# Altium footprint library Connector_Samtec_HLE_SMD.PcbLib: 290 footprints (part 5 of 24)
Each footprint in its own frame and in the unit in brackets; x right, y up, seen from the top. Pads: shape width x height; smd on the part's side, far side on the other; paste and mask are expansions set on the pad; w line width, h text height; cw(c..) or ccw(c..) is an arc to the next point about the centre after c.
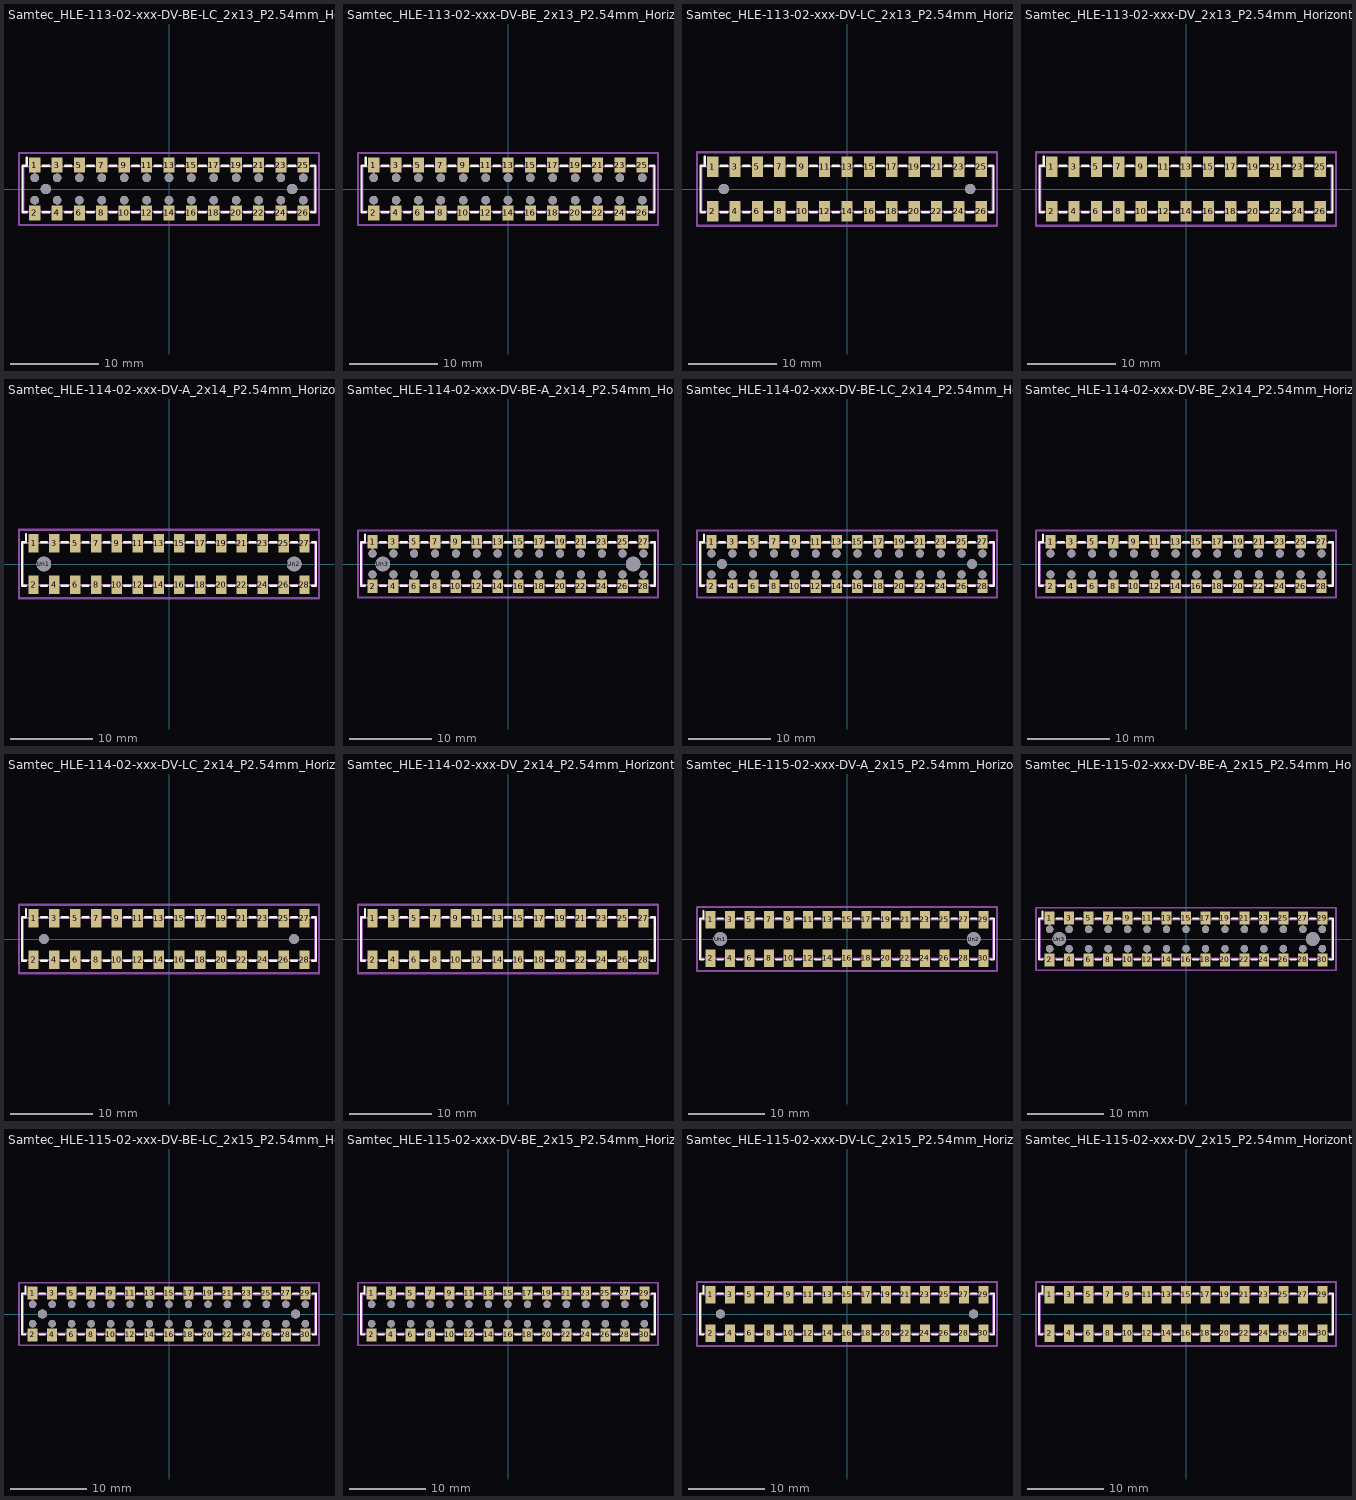
[diagram p4: the footprints below, top view; thin cyan lines are the x and y axes]

## Samtec_HLE-113-02-xxx-DV-BE-LC_2x13_P2.54mm_Horizontal [mm]
pads (54):
  rect 1.27x1.68 smd: 1(-15.24,2.72) 2(-15.24,-2.72) 3(-12.7,2.72) 4(-12.7,-2.72) 5(-10.16,2.72) 6(-10.16,-2.72) 7(-7.62,2.72) 8(-7.62,-2.72) 9(-5.08,2.72) 10(-5.08,-2.72) 11(-2.54,2.72) 12(-2.54,-2.72) 13(0,2.72) 14(0,-2.72) 15(2.54,2.72) 16(2.54,-2.72) 17(5.08,2.72) 18(5.08,-2.72) 19(7.62,2.72) 20(7.62,-2.72) 21(10.16,2.72) 22(10.16,-2.72) 23(12.7,2.72) 24(12.7,-2.72) 25(15.24,2.72) 26(15.24,-2.72)
  round 0.97 hole 0.97: Un1(-15.24,1.27) Un2(-15.24,-1.27) Un4(-12.7,1.27) Un5(-12.7,-1.27) Un6(-10.16,1.27) Un7(-10.16,-1.27) Un8(-7.62,1.27) Un9(-7.62,-1.27) Un10(-5.08,1.27) Un11(-5.08,-1.27) Un12(-2.54,1.27) Un13(-2.54,-1.27) Un14(0,1.27) Un15(0,-1.27) Un16(2.54,1.27) Un17(2.54,-1.27) Un18(5.08,1.27) Un19(5.08,-1.27) Un20(7.62,1.27) Un21(7.62,-1.27) Un22(10.16,1.27) Un23(10.16,-1.27) Un24(12.7,1.27) Un25(12.7,-1.27) Un27(15.24,1.27) Un28(15.24,-1.27)
  round 1.19 hole 1.19: Un3(-13.97,0) Un26(13.97,0)
F.SilkS:
  lines w0.254: -16.135,-2.65 -16.62,-2.65 -16.62,2.65 -16.135,2.65 -16.135,3.56 ; -14.345,-2.65 -13.595,-2.65 ; -14.345,2.65 -13.595,2.65 ; -11.805,-2.65 -11.055,-2.65 ; -11.805,2.65 -11.055,2.65 ; -9.265,-2.65 -8.515,-2.65 ; -9.265,2.65 -8.515,2.65 ; -6.725,-2.65 -5.975,-2.65 ; -6.725,2.65 -5.975,2.65 ; -4.185,-2.65 -3.435,-2.65 ; -4.185,2.65 -3.435,2.65 ; -1.645,-2.65 -0.895,-2.65 ; -1.645,2.65 -0.895,2.65 ; 0.895,-2.65 1.645,-2.65 ; 0.895,2.65 1.645,2.65 ; 3.435,-2.65 4.185,-2.65 ; 3.435,2.65 4.185,2.65 ; 5.975,-2.65 6.725,-2.65 ; 5.975,2.65 6.725,2.65 ; 8.515,-2.65 9.265,-2.65 ; 8.515,2.65 9.265,2.65 ; 11.055,-2.65 11.805,-2.65 ; 11.055,2.65 11.805,2.65 ; 13.595,-2.65 14.345,-2.65 ; 13.595,2.65 14.345,2.65 ; 16.135,-2.65 16.62,-2.65 16.62,2.65 16.135,2.65
Top Assembly:
  lines w0.254: -15.74,2.54 -15.24,1.833 -14.74,2.54 ; -16.51,-2.54 16.51,-2.54 16.51,2.54 -16.51,2.54 -16.51,-2.54
  text "'.Designator'" at -4.047,-2.68 h1
Top Courtyard:
  lines w0.254: -17.02,-4.07 17.02,-4.07 17.02,4.07 -17.02,4.07 -17.02,-4.07
Top Designator:
  text ".Designator" at -7.618,-0.508 h1.52

## Samtec_HLE-113-02-xxx-DV-BE_2x13_P2.54mm_Horizontal [mm]
pads (52):
  rect 1.27x1.68 smd: 1(-15.24,2.72) 2(-15.24,-2.72) 3(-12.7,2.72) 4(-12.7,-2.72) 5(-10.16,2.72) 6(-10.16,-2.72) 7(-7.62,2.72) 8(-7.62,-2.72) 9(-5.08,2.72) 10(-5.08,-2.72) 11(-2.54,2.72) 12(-2.54,-2.72) 13(0,2.72) 14(0,-2.72) 15(2.54,2.72) 16(2.54,-2.72) 17(5.08,2.72) 18(5.08,-2.72) 19(7.62,2.72) 20(7.62,-2.72) 21(10.16,2.72) 22(10.16,-2.72) 23(12.7,2.72) 24(12.7,-2.72) 25(15.24,2.72) 26(15.24,-2.72)
  round 0.97 hole 0.97: Un1(-15.24,1.27) Un2(-15.24,-1.27) Un3(-12.7,1.27) Un4(-12.7,-1.27) Un5(-10.16,1.27) Un6(-10.16,-1.27) Un7(-7.62,1.27) Un8(-7.62,-1.27) Un9(-5.08,1.27) Un10(-5.08,-1.27) Un11(-2.54,1.27) Un12(-2.54,-1.27) Un13(0,1.27) Un14(0,-1.27) Un15(2.54,1.27) Un16(2.54,-1.27) Un17(5.08,1.27) Un18(5.08,-1.27) Un19(7.62,1.27) Un20(7.62,-1.27) Un21(10.16,1.27) Un22(10.16,-1.27) Un23(12.7,1.27) Un24(12.7,-1.27) Un25(15.24,1.27) Un26(15.24,-1.27)
F.SilkS:
  lines w0.254: -16.135,-2.65 -16.62,-2.65 -16.62,2.65 -16.135,2.65 -16.135,3.56 ; -14.345,-2.65 -13.595,-2.65 ; -14.345,2.65 -13.595,2.65 ; -11.805,-2.65 -11.055,-2.65 ; -11.805,2.65 -11.055,2.65 ; -9.265,-2.65 -8.515,-2.65 ; -9.265,2.65 -8.515,2.65 ; -6.725,-2.65 -5.975,-2.65 ; -6.725,2.65 -5.975,2.65 ; -4.185,-2.65 -3.435,-2.65 ; -4.185,2.65 -3.435,2.65 ; -1.645,-2.65 -0.895,-2.65 ; -1.645,2.65 -0.895,2.65 ; 0.895,-2.65 1.645,-2.65 ; 0.895,2.65 1.645,2.65 ; 3.435,-2.65 4.185,-2.65 ; 3.435,2.65 4.185,2.65 ; 5.975,-2.65 6.725,-2.65 ; 5.975,2.65 6.725,2.65 ; 8.515,-2.65 9.265,-2.65 ; 8.515,2.65 9.265,2.65 ; 11.055,-2.65 11.805,-2.65 ; 11.055,2.65 11.805,2.65 ; 13.595,-2.65 14.345,-2.65 ; 13.595,2.65 14.345,2.65 ; 16.135,-2.65 16.62,-2.65 16.62,2.65 16.135,2.65
Top Assembly:
  lines w0.254: -15.74,2.54 -15.24,1.833 -14.74,2.54 ; -16.51,-2.54 16.51,-2.54 16.51,2.54 -16.51,2.54 -16.51,-2.54
  text "'.Designator'" at -4.047,-2.68 h1
Top Courtyard:
  lines w0.254: -17.02,-4.07 17.02,-4.07 17.02,4.07 -17.02,4.07 -17.02,-4.07
Top Designator:
  text ".Designator" at -7.618,-0.508 h1.52

## Samtec_HLE-113-02-xxx-DV-LC_2x13_P2.54mm_Horizontal [mm]
pads (28):
  rect 1.27x2.29 smd: 1(-15.24,2.525) 2(-15.24,-2.525) 3(-12.7,2.525) 4(-12.7,-2.525) 5(-10.16,2.525) 6(-10.16,-2.525) 7(-7.62,2.525) 8(-7.62,-2.525) 9(-5.08,2.525) 10(-5.08,-2.525) 11(-2.54,2.525) 12(-2.54,-2.525) 13(0,2.525) 14(0,-2.525) 15(2.54,2.525) 16(2.54,-2.525) 17(5.08,2.525) 18(5.08,-2.525) 19(7.62,2.525) 20(7.62,-2.525) 21(10.16,2.525) 22(10.16,-2.525) 23(12.7,2.525) 24(12.7,-2.525) 25(15.24,2.525) 26(15.24,-2.525)
  round 1.19 hole 1.19: Un1(-13.97,0) Un2(13.97,0)
F.SilkS:
  lines w0.254: -16.135,-2.65 -16.62,-2.65 -16.62,2.65 -16.135,2.65 -16.135,3.67 ; -14.345,-2.65 -13.595,-2.65 ; -14.345,2.65 -13.595,2.65 ; -11.805,-2.65 -11.055,-2.65 ; -11.805,2.65 -11.055,2.65 ; -9.265,-2.65 -8.515,-2.65 ; -9.265,2.65 -8.515,2.65 ; -6.725,-2.65 -5.975,-2.65 ; -6.725,2.65 -5.975,2.65 ; -4.185,-2.65 -3.435,-2.65 ; -4.185,2.65 -3.435,2.65 ; -1.645,-2.65 -0.895,-2.65 ; -1.645,2.65 -0.895,2.65 ; 0.895,-2.65 1.645,-2.65 ; 0.895,2.65 1.645,2.65 ; 3.435,-2.65 4.185,-2.65 ; 3.435,2.65 4.185,2.65 ; 5.975,-2.65 6.725,-2.65 ; 5.975,2.65 6.725,2.65 ; 8.515,-2.65 9.265,-2.65 ; 8.515,2.65 9.265,2.65 ; 11.055,-2.65 11.805,-2.65 ; 11.055,2.65 11.805,2.65 ; 13.595,-2.65 14.345,-2.65 ; 13.595,2.65 14.345,2.65 ; 16.135,-2.65 16.62,-2.65 16.62,2.65 16.135,2.65
Top Assembly:
  lines w0.254: -15.74,2.54 -15.24,1.833 -14.74,2.54 ; -16.51,-2.54 16.51,-2.54 16.51,2.54 -16.51,2.54 -16.51,-2.54
  text "'.Designator'" at -4.047,-2.68 h1
Top Courtyard:
  lines w0.254: -17.02,-4.17 17.02,-4.17 17.02,4.17 -17.02,4.17 -17.02,-4.17
Top Designator:
  text ".Designator" at -7.618,-0.508 h1.52

## Samtec_HLE-113-02-xxx-DV_2x13_P2.54mm_Horizontal [mm]
pads (26):
  rect 1.27x2.29 smd: 1(-15.24,2.525) 2(-15.24,-2.525) 3(-12.7,2.525) 4(-12.7,-2.525) 5(-10.16,2.525) 6(-10.16,-2.525) 7(-7.62,2.525) 8(-7.62,-2.525) 9(-5.08,2.525) 10(-5.08,-2.525) 11(-2.54,2.525) 12(-2.54,-2.525) 13(0,2.525) 14(0,-2.525) 15(2.54,2.525) 16(2.54,-2.525) 17(5.08,2.525) 18(5.08,-2.525) 19(7.62,2.525) 20(7.62,-2.525) 21(10.16,2.525) 22(10.16,-2.525) 23(12.7,2.525) 24(12.7,-2.525) 25(15.24,2.525) 26(15.24,-2.525)
F.SilkS:
  lines w0.254: -16.135,-2.65 -16.62,-2.65 -16.62,2.65 -16.135,2.65 -16.135,3.67 ; -14.345,-2.65 -13.595,-2.65 ; -14.345,2.65 -13.595,2.65 ; -11.805,-2.65 -11.055,-2.65 ; -11.805,2.65 -11.055,2.65 ; -9.265,-2.65 -8.515,-2.65 ; -9.265,2.65 -8.515,2.65 ; -6.725,-2.65 -5.975,-2.65 ; -6.725,2.65 -5.975,2.65 ; -4.185,-2.65 -3.435,-2.65 ; -4.185,2.65 -3.435,2.65 ; -1.645,-2.65 -0.895,-2.65 ; -1.645,2.65 -0.895,2.65 ; 0.895,-2.65 1.645,-2.65 ; 0.895,2.65 1.645,2.65 ; 3.435,-2.65 4.185,-2.65 ; 3.435,2.65 4.185,2.65 ; 5.975,-2.65 6.725,-2.65 ; 5.975,2.65 6.725,2.65 ; 8.515,-2.65 9.265,-2.65 ; 8.515,2.65 9.265,2.65 ; 11.055,-2.65 11.805,-2.65 ; 11.055,2.65 11.805,2.65 ; 13.595,-2.65 14.345,-2.65 ; 13.595,2.65 14.345,2.65 ; 16.135,-2.65 16.62,-2.65 16.62,2.65 16.135,2.65
Top Assembly:
  lines w0.254: -15.74,2.54 -15.24,1.833 -14.74,2.54 ; -16.51,-2.54 16.51,-2.54 16.51,2.54 -16.51,2.54 -16.51,-2.54
  text "'.Designator'" at -4.047,-2.68 h1
Top Courtyard:
  lines w0.254: -17.02,-4.17 17.02,-4.17 17.02,4.17 -17.02,4.17 -17.02,-4.17
Top Designator:
  text ".Designator" at -7.618,-0.508 h1.52

## Samtec_HLE-114-02-xxx-DV-A_2x14_P2.54mm_Horizontal [mm]
pads (30):
  rect 1.27x2.29 smd: 1(-16.51,2.525) 2(-16.51,-2.525) 3(-13.97,2.525) 4(-13.97,-2.525) 5(-11.43,2.525) 6(-11.43,-2.525) 7(-8.89,2.525) 8(-8.89,-2.525) 9(-6.35,2.525) 10(-6.35,-2.525) 11(-3.81,2.525) 12(-3.81,-2.525) 13(-1.27,2.525) 14(-1.27,-2.525) 15(1.27,2.525) 16(1.27,-2.525) 17(3.81,2.525) 18(3.81,-2.525) 19(6.35,2.525) 20(6.35,-2.525) 21(8.89,2.525) 22(8.89,-2.525) 23(11.43,2.525) 24(11.43,-2.525) 25(13.97,2.525) 26(13.97,-2.525) 27(16.51,2.525) 28(16.51,-2.525)
  round 1.78 hole 1.78: Un1(-15.24,0) Un2(15.24,0)
F.SilkS:
  lines w0.254: -17.405,-2.65 -17.89,-2.65 -17.89,2.65 -17.405,2.65 -17.405,3.67 ; -15.615,-2.65 -14.865,-2.65 ; -15.615,2.65 -14.865,2.65 ; -13.075,-2.65 -12.325,-2.65 ; -13.075,2.65 -12.325,2.65 ; -10.535,-2.65 -9.785,-2.65 ; -10.535,2.65 -9.785,2.65 ; -7.995,-2.65 -7.245,-2.65 ; -7.995,2.65 -7.245,2.65 ; -5.455,-2.65 -4.705,-2.65 ; -5.455,2.65 -4.705,2.65 ; -2.915,-2.65 -2.165,-2.65 ; -2.915,2.65 -2.165,2.65 ; -0.375,-2.65 0.375,-2.65 ; -0.375,2.65 0.375,2.65 ; 2.165,-2.65 2.915,-2.65 ; 2.165,2.65 2.915,2.65 ; 4.705,-2.65 5.455,-2.65 ; 4.705,2.65 5.455,2.65 ; 7.245,-2.65 7.995,-2.65 ; 7.245,2.65 7.995,2.65 ; 9.785,-2.65 10.535,-2.65 ; 9.785,2.65 10.535,2.65 ; 12.325,-2.65 13.075,-2.65 ; 12.325,2.65 13.075,2.65 ; 14.865,-2.65 15.615,-2.65 ; 14.865,2.65 15.615,2.65 ; 17.405,-2.65 17.89,-2.65 17.89,2.65 17.405,2.65
Top Assembly:
  lines w0.254: -17.01,2.54 -16.51,1.833 -16.01,2.54 ; -17.78,-2.54 17.78,-2.54 17.78,2.54 -17.78,2.54 -17.78,-2.54
  text "'.Designator'" at -4.047,-2.68 h1
Top Courtyard:
  lines w0.254: -18.28,-4.17 18.28,-4.17 18.28,4.17 -18.28,4.17 -18.28,-4.17
Top Designator:
  text ".Designator" at -7.618,-0.508 h1.52

## Samtec_HLE-114-02-xxx-DV-BE-A_2x14_P2.54mm_Horizontal [mm]
pads (58):
  rect 1.27x1.68 smd: 1(-16.51,2.72) 2(-16.51,-2.72) 3(-13.97,2.72) 4(-13.97,-2.72) 5(-11.43,2.72) 6(-11.43,-2.72) 7(-8.89,2.72) 8(-8.89,-2.72) 9(-6.35,2.72) 10(-6.35,-2.72) 11(-3.81,2.72) 12(-3.81,-2.72) 13(-1.27,2.72) 14(-1.27,-2.72) 15(1.27,2.72) 16(1.27,-2.72) 17(3.81,2.72) 18(3.81,-2.72) 19(6.35,2.72) 20(6.35,-2.72) 21(8.89,2.72) 22(8.89,-2.72) 23(11.43,2.72) 24(11.43,-2.72) 25(13.97,2.72) 26(13.97,-2.72) 27(16.51,2.72) 28(16.51,-2.72)
  round 0.97 hole 0.97: Un1(-16.51,1.27) Un2(-16.51,-1.27) Un4(-13.97,1.27) Un5(-13.97,-1.27) Un6(-11.43,1.27) Un7(-11.43,-1.27) Un8(-8.89,1.27) Un9(-8.89,-1.27) Un10(-6.35,1.27) Un11(-6.35,-1.27) Un12(-3.81,1.27) Un13(-3.81,-1.27) Un14(-1.27,1.27) Un15(-1.27,-1.27) Un16(1.27,1.27) Un17(1.27,-1.27) Un18(3.81,1.27) Un19(3.81,-1.27) Un20(6.35,1.27) Un21(6.35,-1.27) Un22(8.89,1.27) Un23(8.89,-1.27) Un24(11.43,1.27) Un25(11.43,-1.27) Un26(13.97,1.27) Un27(13.97,-1.27) Un29(16.51,1.27) Un30(16.51,-1.27)
  round 1.78 hole 1.78: Un3(-15.24,0) Un28(15.24,0)
F.SilkS:
  lines w0.254: -17.405,-2.65 -17.89,-2.65 -17.89,2.65 -17.405,2.65 -17.405,3.56 ; -15.615,-2.65 -14.865,-2.65 ; -15.615,2.65 -14.865,2.65 ; -13.075,-2.65 -12.325,-2.65 ; -13.075,2.65 -12.325,2.65 ; -10.535,-2.65 -9.785,-2.65 ; -10.535,2.65 -9.785,2.65 ; -7.995,-2.65 -7.245,-2.65 ; -7.995,2.65 -7.245,2.65 ; -5.455,-2.65 -4.705,-2.65 ; -5.455,2.65 -4.705,2.65 ; -2.915,-2.65 -2.165,-2.65 ; -2.915,2.65 -2.165,2.65 ; -0.375,-2.65 0.375,-2.65 ; -0.375,2.65 0.375,2.65 ; 2.165,-2.65 2.915,-2.65 ; 2.165,2.65 2.915,2.65 ; 4.705,-2.65 5.455,-2.65 ; 4.705,2.65 5.455,2.65 ; 7.245,-2.65 7.995,-2.65 ; 7.245,2.65 7.995,2.65 ; 9.785,-2.65 10.535,-2.65 ; 9.785,2.65 10.535,2.65 ; 12.325,-2.65 13.075,-2.65 ; 12.325,2.65 13.075,2.65 ; 14.865,-2.65 15.615,-2.65 ; 14.865,2.65 15.615,2.65 ; 17.405,-2.65 17.89,-2.65 17.89,2.65 17.405,2.65
Top Assembly:
  lines w0.254: -17.01,2.54 -16.51,1.833 -16.01,2.54 ; -17.78,-2.54 17.78,-2.54 17.78,2.54 -17.78,2.54 -17.78,-2.54
  text "'.Designator'" at -4.047,-2.68 h1
Top Courtyard:
  lines w0.254: -18.28,-4.07 18.28,-4.07 18.28,4.07 -18.28,4.07 -18.28,-4.07
Top Designator:
  text ".Designator" at -7.618,-0.508 h1.52

## Samtec_HLE-114-02-xxx-DV-BE-LC_2x14_P2.54mm_Horizontal [mm]
pads (58):
  rect 1.27x1.68 smd: 1(-16.51,2.72) 2(-16.51,-2.72) 3(-13.97,2.72) 4(-13.97,-2.72) 5(-11.43,2.72) 6(-11.43,-2.72) 7(-8.89,2.72) 8(-8.89,-2.72) 9(-6.35,2.72) 10(-6.35,-2.72) 11(-3.81,2.72) 12(-3.81,-2.72) 13(-1.27,2.72) 14(-1.27,-2.72) 15(1.27,2.72) 16(1.27,-2.72) 17(3.81,2.72) 18(3.81,-2.72) 19(6.35,2.72) 20(6.35,-2.72) 21(8.89,2.72) 22(8.89,-2.72) 23(11.43,2.72) 24(11.43,-2.72) 25(13.97,2.72) 26(13.97,-2.72) 27(16.51,2.72) 28(16.51,-2.72)
  round 0.97 hole 0.97: Un1(-16.51,1.27) Un2(-16.51,-1.27) Un4(-13.97,1.27) Un5(-13.97,-1.27) Un6(-11.43,1.27) Un7(-11.43,-1.27) Un8(-8.89,1.27) Un9(-8.89,-1.27) Un10(-6.35,1.27) Un11(-6.35,-1.27) Un12(-3.81,1.27) Un13(-3.81,-1.27) Un14(-1.27,1.27) Un15(-1.27,-1.27) Un16(1.27,1.27) Un17(1.27,-1.27) Un18(3.81,1.27) Un19(3.81,-1.27) Un20(6.35,1.27) Un21(6.35,-1.27) Un22(8.89,1.27) Un23(8.89,-1.27) Un24(11.43,1.27) Un25(11.43,-1.27) Un26(13.97,1.27) Un27(13.97,-1.27) Un29(16.51,1.27) Un30(16.51,-1.27)
  round 1.19 hole 1.19: Un3(-15.24,0) Un28(15.24,0)
F.SilkS:
  lines w0.254: -17.405,-2.65 -17.89,-2.65 -17.89,2.65 -17.405,2.65 -17.405,3.56 ; -15.615,-2.65 -14.865,-2.65 ; -15.615,2.65 -14.865,2.65 ; -13.075,-2.65 -12.325,-2.65 ; -13.075,2.65 -12.325,2.65 ; -10.535,-2.65 -9.785,-2.65 ; -10.535,2.65 -9.785,2.65 ; -7.995,-2.65 -7.245,-2.65 ; -7.995,2.65 -7.245,2.65 ; -5.455,-2.65 -4.705,-2.65 ; -5.455,2.65 -4.705,2.65 ; -2.915,-2.65 -2.165,-2.65 ; -2.915,2.65 -2.165,2.65 ; -0.375,-2.65 0.375,-2.65 ; -0.375,2.65 0.375,2.65 ; 2.165,-2.65 2.915,-2.65 ; 2.165,2.65 2.915,2.65 ; 4.705,-2.65 5.455,-2.65 ; 4.705,2.65 5.455,2.65 ; 7.245,-2.65 7.995,-2.65 ; 7.245,2.65 7.995,2.65 ; 9.785,-2.65 10.535,-2.65 ; 9.785,2.65 10.535,2.65 ; 12.325,-2.65 13.075,-2.65 ; 12.325,2.65 13.075,2.65 ; 14.865,-2.65 15.615,-2.65 ; 14.865,2.65 15.615,2.65 ; 17.405,-2.65 17.89,-2.65 17.89,2.65 17.405,2.65
Top Assembly:
  lines w0.254: -17.01,2.54 -16.51,1.833 -16.01,2.54 ; -17.78,-2.54 17.78,-2.54 17.78,2.54 -17.78,2.54 -17.78,-2.54
  text "'.Designator'" at -4.047,-2.68 h1
Top Courtyard:
  lines w0.254: -18.28,-4.07 18.28,-4.07 18.28,4.07 -18.28,4.07 -18.28,-4.07
Top Designator:
  text ".Designator" at -7.618,-0.508 h1.52

## Samtec_HLE-114-02-xxx-DV-BE_2x14_P2.54mm_Horizontal [mm]
pads (56):
  rect 1.27x1.68 smd: 1(-16.51,2.72) 2(-16.51,-2.72) 3(-13.97,2.72) 4(-13.97,-2.72) 5(-11.43,2.72) 6(-11.43,-2.72) 7(-8.89,2.72) 8(-8.89,-2.72) 9(-6.35,2.72) 10(-6.35,-2.72) 11(-3.81,2.72) 12(-3.81,-2.72) 13(-1.27,2.72) 14(-1.27,-2.72) 15(1.27,2.72) 16(1.27,-2.72) 17(3.81,2.72) 18(3.81,-2.72) 19(6.35,2.72) 20(6.35,-2.72) 21(8.89,2.72) 22(8.89,-2.72) 23(11.43,2.72) 24(11.43,-2.72) 25(13.97,2.72) 26(13.97,-2.72) 27(16.51,2.72) 28(16.51,-2.72)
  round 0.97 hole 0.97: Un1(-16.51,1.27) Un2(-16.51,-1.27) Un3(-13.97,1.27) Un4(-13.97,-1.27) Un5(-11.43,1.27) Un6(-11.43,-1.27) Un7(-8.89,1.27) Un8(-8.89,-1.27) Un9(-6.35,1.27) Un10(-6.35,-1.27) Un11(-3.81,1.27) Un12(-3.81,-1.27) Un13(-1.27,1.27) Un14(-1.27,-1.27) Un15(1.27,1.27) Un16(1.27,-1.27) Un17(3.81,1.27) Un18(3.81,-1.27) Un19(6.35,1.27) Un20(6.35,-1.27) Un21(8.89,1.27) Un22(8.89,-1.27) Un23(11.43,1.27) Un24(11.43,-1.27) Un25(13.97,1.27) Un26(13.97,-1.27) Un27(16.51,1.27) Un28(16.51,-1.27)
F.SilkS:
  lines w0.254: -17.405,-2.65 -17.89,-2.65 -17.89,2.65 -17.405,2.65 -17.405,3.56 ; -15.615,-2.65 -14.865,-2.65 ; -15.615,2.65 -14.865,2.65 ; -13.075,-2.65 -12.325,-2.65 ; -13.075,2.65 -12.325,2.65 ; -10.535,-2.65 -9.785,-2.65 ; -10.535,2.65 -9.785,2.65 ; -7.995,-2.65 -7.245,-2.65 ; -7.995,2.65 -7.245,2.65 ; -5.455,-2.65 -4.705,-2.65 ; -5.455,2.65 -4.705,2.65 ; -2.915,-2.65 -2.165,-2.65 ; -2.915,2.65 -2.165,2.65 ; -0.375,-2.65 0.375,-2.65 ; -0.375,2.65 0.375,2.65 ; 2.165,-2.65 2.915,-2.65 ; 2.165,2.65 2.915,2.65 ; 4.705,-2.65 5.455,-2.65 ; 4.705,2.65 5.455,2.65 ; 7.245,-2.65 7.995,-2.65 ; 7.245,2.65 7.995,2.65 ; 9.785,-2.65 10.535,-2.65 ; 9.785,2.65 10.535,2.65 ; 12.325,-2.65 13.075,-2.65 ; 12.325,2.65 13.075,2.65 ; 14.865,-2.65 15.615,-2.65 ; 14.865,2.65 15.615,2.65 ; 17.405,-2.65 17.89,-2.65 17.89,2.65 17.405,2.65
Top Assembly:
  lines w0.254: -17.01,2.54 -16.51,1.833 -16.01,2.54 ; -17.78,-2.54 17.78,-2.54 17.78,2.54 -17.78,2.54 -17.78,-2.54
  text "'.Designator'" at -4.047,-2.68 h1
Top Courtyard:
  lines w0.254: -18.28,-4.07 18.28,-4.07 18.28,4.07 -18.28,4.07 -18.28,-4.07
Top Designator:
  text ".Designator" at -7.618,-0.508 h1.52

## Samtec_HLE-114-02-xxx-DV-LC_2x14_P2.54mm_Horizontal [mm]
pads (30):
  rect 1.27x2.29 smd: 1(-16.51,2.525) 2(-16.51,-2.525) 3(-13.97,2.525) 4(-13.97,-2.525) 5(-11.43,2.525) 6(-11.43,-2.525) 7(-8.89,2.525) 8(-8.89,-2.525) 9(-6.35,2.525) 10(-6.35,-2.525) 11(-3.81,2.525) 12(-3.81,-2.525) 13(-1.27,2.525) 14(-1.27,-2.525) 15(1.27,2.525) 16(1.27,-2.525) 17(3.81,2.525) 18(3.81,-2.525) 19(6.35,2.525) 20(6.35,-2.525) 21(8.89,2.525) 22(8.89,-2.525) 23(11.43,2.525) 24(11.43,-2.525) 25(13.97,2.525) 26(13.97,-2.525) 27(16.51,2.525) 28(16.51,-2.525)
  round 1.19 hole 1.19: Un1(-15.24,0) Un2(15.24,0)
F.SilkS:
  lines w0.254: -17.405,-2.65 -17.89,-2.65 -17.89,2.65 -17.405,2.65 -17.405,3.67 ; -15.615,-2.65 -14.865,-2.65 ; -15.615,2.65 -14.865,2.65 ; -13.075,-2.65 -12.325,-2.65 ; -13.075,2.65 -12.325,2.65 ; -10.535,-2.65 -9.785,-2.65 ; -10.535,2.65 -9.785,2.65 ; -7.995,-2.65 -7.245,-2.65 ; -7.995,2.65 -7.245,2.65 ; -5.455,-2.65 -4.705,-2.65 ; -5.455,2.65 -4.705,2.65 ; -2.915,-2.65 -2.165,-2.65 ; -2.915,2.65 -2.165,2.65 ; -0.375,-2.65 0.375,-2.65 ; -0.375,2.65 0.375,2.65 ; 2.165,-2.65 2.915,-2.65 ; 2.165,2.65 2.915,2.65 ; 4.705,-2.65 5.455,-2.65 ; 4.705,2.65 5.455,2.65 ; 7.245,-2.65 7.995,-2.65 ; 7.245,2.65 7.995,2.65 ; 9.785,-2.65 10.535,-2.65 ; 9.785,2.65 10.535,2.65 ; 12.325,-2.65 13.075,-2.65 ; 12.325,2.65 13.075,2.65 ; 14.865,-2.65 15.615,-2.65 ; 14.865,2.65 15.615,2.65 ; 17.405,-2.65 17.89,-2.65 17.89,2.65 17.405,2.65
Top Assembly:
  lines w0.254: -17.01,2.54 -16.51,1.833 -16.01,2.54 ; -17.78,-2.54 17.78,-2.54 17.78,2.54 -17.78,2.54 -17.78,-2.54
  text "'.Designator'" at -4.047,-2.68 h1
Top Courtyard:
  lines w0.254: -18.28,-4.17 18.28,-4.17 18.28,4.17 -18.28,4.17 -18.28,-4.17
Top Designator:
  text ".Designator" at -7.618,-0.508 h1.52

## Samtec_HLE-114-02-xxx-DV_2x14_P2.54mm_Horizontal [mm]
pads (28):
  rect 1.27x2.29 smd: 1(-16.51,2.525) 2(-16.51,-2.525) 3(-13.97,2.525) 4(-13.97,-2.525) 5(-11.43,2.525) 6(-11.43,-2.525) 7(-8.89,2.525) 8(-8.89,-2.525) 9(-6.35,2.525) 10(-6.35,-2.525) 11(-3.81,2.525) 12(-3.81,-2.525) 13(-1.27,2.525) 14(-1.27,-2.525) 15(1.27,2.525) 16(1.27,-2.525) 17(3.81,2.525) 18(3.81,-2.525) 19(6.35,2.525) 20(6.35,-2.525) 21(8.89,2.525) 22(8.89,-2.525) 23(11.43,2.525) 24(11.43,-2.525) 25(13.97,2.525) 26(13.97,-2.525) 27(16.51,2.525) 28(16.51,-2.525)
F.SilkS:
  lines w0.254: -17.405,-2.65 -17.89,-2.65 -17.89,2.65 -17.405,2.65 -17.405,3.67 ; -15.615,-2.65 -14.865,-2.65 ; -15.615,2.65 -14.865,2.65 ; -13.075,-2.65 -12.325,-2.65 ; -13.075,2.65 -12.325,2.65 ; -10.535,-2.65 -9.785,-2.65 ; -10.535,2.65 -9.785,2.65 ; -7.995,-2.65 -7.245,-2.65 ; -7.995,2.65 -7.245,2.65 ; -5.455,-2.65 -4.705,-2.65 ; -5.455,2.65 -4.705,2.65 ; -2.915,-2.65 -2.165,-2.65 ; -2.915,2.65 -2.165,2.65 ; -0.375,-2.65 0.375,-2.65 ; -0.375,2.65 0.375,2.65 ; 2.165,-2.65 2.915,-2.65 ; 2.165,2.65 2.915,2.65 ; 4.705,-2.65 5.455,-2.65 ; 4.705,2.65 5.455,2.65 ; 7.245,-2.65 7.995,-2.65 ; 7.245,2.65 7.995,2.65 ; 9.785,-2.65 10.535,-2.65 ; 9.785,2.65 10.535,2.65 ; 12.325,-2.65 13.075,-2.65 ; 12.325,2.65 13.075,2.65 ; 14.865,-2.65 15.615,-2.65 ; 14.865,2.65 15.615,2.65 ; 17.405,-2.65 17.89,-2.65 17.89,2.65 17.405,2.65
Top Assembly:
  lines w0.254: -17.01,2.54 -16.51,1.833 -16.01,2.54 ; -17.78,-2.54 17.78,-2.54 17.78,2.54 -17.78,2.54 -17.78,-2.54
  text "'.Designator'" at -4.047,-2.68 h1
Top Courtyard:
  lines w0.254: -18.28,-4.17 18.28,-4.17 18.28,4.17 -18.28,4.17 -18.28,-4.17
Top Designator:
  text ".Designator" at -7.618,-0.508 h1.52

## Samtec_HLE-115-02-xxx-DV-A_2x15_P2.54mm_Horizontal [mm]
pads (32):
  rect 1.27x2.29 smd: 1(-17.78,2.525) 2(-17.78,-2.525) 3(-15.24,2.525) 4(-15.24,-2.525) 5(-12.7,2.525) 6(-12.7,-2.525) 7(-10.16,2.525) 8(-10.16,-2.525) 9(-7.62,2.525) 10(-7.62,-2.525) 11(-5.08,2.525) 12(-5.08,-2.525) 13(-2.54,2.525) 14(-2.54,-2.525) 15(0,2.525) 16(0,-2.525) 17(2.54,2.525) 18(2.54,-2.525) 19(5.08,2.525) 20(5.08,-2.525) 21(7.62,2.525) 22(7.62,-2.525) 23(10.16,2.525) 24(10.16,-2.525) 25(12.7,2.525) 26(12.7,-2.525) 27(15.24,2.525) 28(15.24,-2.525) 29(17.78,2.525) 30(17.78,-2.525)
  round 1.78 hole 1.78: Un1(-16.51,0) Un2(16.51,0)
F.SilkS:
  lines w0.254: -18.675,-2.65 -19.16,-2.65 -19.16,2.65 -18.675,2.65 -18.675,3.67 ; -16.885,-2.65 -16.135,-2.65 ; -16.885,2.65 -16.135,2.65 ; -14.345,-2.65 -13.595,-2.65 ; -14.345,2.65 -13.595,2.65 ; -11.805,-2.65 -11.055,-2.65 ; -11.805,2.65 -11.055,2.65 ; -9.265,-2.65 -8.515,-2.65 ; -9.265,2.65 -8.515,2.65 ; -6.725,-2.65 -5.975,-2.65 ; -6.725,2.65 -5.975,2.65 ; -4.185,-2.65 -3.435,-2.65 ; -4.185,2.65 -3.435,2.65 ; -1.645,-2.65 -0.895,-2.65 ; -1.645,2.65 -0.895,2.65 ; 0.895,-2.65 1.645,-2.65 ; 0.895,2.65 1.645,2.65 ; 3.435,-2.65 4.185,-2.65 ; 3.435,2.65 4.185,2.65 ; 5.975,-2.65 6.725,-2.65 ; 5.975,2.65 6.725,2.65 ; 8.515,-2.65 9.265,-2.65 ; 8.515,2.65 9.265,2.65 ; 11.055,-2.65 11.805,-2.65 ; 11.055,2.65 11.805,2.65 ; 13.595,-2.65 14.345,-2.65 ; 13.595,2.65 14.345,2.65 ; 16.135,-2.65 16.885,-2.65 ; 16.135,2.65 16.885,2.65 ; 18.675,-2.65 19.16,-2.65 19.16,2.65 18.675,2.65
Top Assembly:
  lines w0.254: -18.28,2.54 -17.78,1.833 -17.28,2.54 ; -19.05,-2.54 19.05,-2.54 19.05,2.54 -19.05,2.54 -19.05,-2.54
  text "'.Designator'" at -4.047,-2.68 h1
Top Courtyard:
  lines w0.254: -19.55,-4.17 19.55,-4.17 19.55,4.17 -19.55,4.17 -19.55,-4.17
Top Designator:
  text ".Designator" at -7.618,-0.508 h1.52

## Samtec_HLE-115-02-xxx-DV-BE-A_2x15_P2.54mm_Horizontal [mm]
pads (62):
  rect 1.27x1.68 smd: 1(-17.78,2.72) 2(-17.78,-2.72) 3(-15.24,2.72) 4(-15.24,-2.72) 5(-12.7,2.72) 6(-12.7,-2.72) 7(-10.16,2.72) 8(-10.16,-2.72) 9(-7.62,2.72) 10(-7.62,-2.72) 11(-5.08,2.72) 12(-5.08,-2.72) 13(-2.54,2.72) 14(-2.54,-2.72) 15(0,2.72) 16(0,-2.72) 17(2.54,2.72) 18(2.54,-2.72) 19(5.08,2.72) 20(5.08,-2.72) 21(7.62,2.72) 22(7.62,-2.72) 23(10.16,2.72) 24(10.16,-2.72) 25(12.7,2.72) 26(12.7,-2.72) 27(15.24,2.72) 28(15.24,-2.72) 29(17.78,2.72) 30(17.78,-2.72)
  round 0.97 hole 0.97: Un1(-17.78,1.27) Un2(-17.78,-1.27) Un4(-15.24,1.27) Un5(-15.24,-1.27) Un6(-12.7,1.27) Un7(-12.7,-1.27) Un8(-10.16,1.27) Un9(-10.16,-1.27) Un10(-7.62,1.27) Un11(-7.62,-1.27) Un12(-5.08,1.27) Un13(-5.08,-1.27) Un14(-2.54,1.27) Un15(-2.54,-1.27) Un16(0,1.27) Un17(0,-1.27) Un18(2.54,1.27) Un19(2.54,-1.27) Un20(5.08,1.27) Un21(5.08,-1.27) Un22(7.62,1.27) Un23(7.62,-1.27) Un24(10.16,1.27) Un25(10.16,-1.27) Un26(12.7,1.27) Un27(12.7,-1.27) Un28(15.24,1.27) Un29(15.24,-1.27) Un31(17.78,1.27) Un32(17.78,-1.27)
  round 1.78 hole 1.78: Un3(-16.51,0) Un30(16.51,0)
F.SilkS:
  lines w0.254: -18.675,-2.65 -19.16,-2.65 -19.16,2.65 -18.675,2.65 -18.675,3.56 ; -16.885,-2.65 -16.135,-2.65 ; -16.885,2.65 -16.135,2.65 ; -14.345,-2.65 -13.595,-2.65 ; -14.345,2.65 -13.595,2.65 ; -11.805,-2.65 -11.055,-2.65 ; -11.805,2.65 -11.055,2.65 ; -9.265,-2.65 -8.515,-2.65 ; -9.265,2.65 -8.515,2.65 ; -6.725,-2.65 -5.975,-2.65 ; -6.725,2.65 -5.975,2.65 ; -4.185,-2.65 -3.435,-2.65 ; -4.185,2.65 -3.435,2.65 ; -1.645,-2.65 -0.895,-2.65 ; -1.645,2.65 -0.895,2.65 ; 0.895,-2.65 1.645,-2.65 ; 0.895,2.65 1.645,2.65 ; 3.435,-2.65 4.185,-2.65 ; 3.435,2.65 4.185,2.65 ; 5.975,-2.65 6.725,-2.65 ; 5.975,2.65 6.725,2.65 ; 8.515,-2.65 9.265,-2.65 ; 8.515,2.65 9.265,2.65 ; 11.055,-2.65 11.805,-2.65 ; 11.055,2.65 11.805,2.65 ; 13.595,-2.65 14.345,-2.65 ; 13.595,2.65 14.345,2.65 ; 16.135,-2.65 16.885,-2.65 ; 16.135,2.65 16.885,2.65 ; 18.675,-2.65 19.16,-2.65 19.16,2.65 18.675,2.65
Top Assembly:
  lines w0.254: -18.28,2.54 -17.78,1.833 -17.28,2.54 ; -19.05,-2.54 19.05,-2.54 19.05,2.54 -19.05,2.54 -19.05,-2.54
  text "'.Designator'" at -4.047,-2.68 h1
Top Courtyard:
  lines w0.254: -19.55,-4.07 19.55,-4.07 19.55,4.07 -19.55,4.07 -19.55,-4.07
Top Designator:
  text ".Designator" at -7.618,-0.508 h1.52

## Samtec_HLE-115-02-xxx-DV-BE-LC_2x15_P2.54mm_Horizontal [mm]
pads (62):
  rect 1.27x1.68 smd: 1(-17.78,2.72) 2(-17.78,-2.72) 3(-15.24,2.72) 4(-15.24,-2.72) 5(-12.7,2.72) 6(-12.7,-2.72) 7(-10.16,2.72) 8(-10.16,-2.72) 9(-7.62,2.72) 10(-7.62,-2.72) 11(-5.08,2.72) 12(-5.08,-2.72) 13(-2.54,2.72) 14(-2.54,-2.72) 15(0,2.72) 16(0,-2.72) 17(2.54,2.72) 18(2.54,-2.72) 19(5.08,2.72) 20(5.08,-2.72) 21(7.62,2.72) 22(7.62,-2.72) 23(10.16,2.72) 24(10.16,-2.72) 25(12.7,2.72) 26(12.7,-2.72) 27(15.24,2.72) 28(15.24,-2.72) 29(17.78,2.72) 30(17.78,-2.72)
  round 0.97 hole 0.97: Un1(-17.78,1.27) Un2(-17.78,-1.27) Un4(-15.24,1.27) Un5(-15.24,-1.27) Un6(-12.7,1.27) Un7(-12.7,-1.27) Un8(-10.16,1.27) Un9(-10.16,-1.27) Un10(-7.62,1.27) Un11(-7.62,-1.27) Un12(-5.08,1.27) Un13(-5.08,-1.27) Un14(-2.54,1.27) Un15(-2.54,-1.27) Un16(0,1.27) Un17(0,-1.27) Un18(2.54,1.27) Un19(2.54,-1.27) Un20(5.08,1.27) Un21(5.08,-1.27) Un22(7.62,1.27) Un23(7.62,-1.27) Un24(10.16,1.27) Un25(10.16,-1.27) Un26(12.7,1.27) Un27(12.7,-1.27) Un28(15.24,1.27) Un29(15.24,-1.27) Un31(17.78,1.27) Un32(17.78,-1.27)
  round 1.19 hole 1.19: Un3(-16.51,0) Un30(16.51,0)
F.SilkS:
  lines w0.254: -18.675,-2.65 -19.16,-2.65 -19.16,2.65 -18.675,2.65 -18.675,3.56 ; -16.885,-2.65 -16.135,-2.65 ; -16.885,2.65 -16.135,2.65 ; -14.345,-2.65 -13.595,-2.65 ; -14.345,2.65 -13.595,2.65 ; -11.805,-2.65 -11.055,-2.65 ; -11.805,2.65 -11.055,2.65 ; -9.265,-2.65 -8.515,-2.65 ; -9.265,2.65 -8.515,2.65 ; -6.725,-2.65 -5.975,-2.65 ; -6.725,2.65 -5.975,2.65 ; -4.185,-2.65 -3.435,-2.65 ; -4.185,2.65 -3.435,2.65 ; -1.645,-2.65 -0.895,-2.65 ; -1.645,2.65 -0.895,2.65 ; 0.895,-2.65 1.645,-2.65 ; 0.895,2.65 1.645,2.65 ; 3.435,-2.65 4.185,-2.65 ; 3.435,2.65 4.185,2.65 ; 5.975,-2.65 6.725,-2.65 ; 5.975,2.65 6.725,2.65 ; 8.515,-2.65 9.265,-2.65 ; 8.515,2.65 9.265,2.65 ; 11.055,-2.65 11.805,-2.65 ; 11.055,2.65 11.805,2.65 ; 13.595,-2.65 14.345,-2.65 ; 13.595,2.65 14.345,2.65 ; 16.135,-2.65 16.885,-2.65 ; 16.135,2.65 16.885,2.65 ; 18.675,-2.65 19.16,-2.65 19.16,2.65 18.675,2.65
Top Assembly:
  lines w0.254: -18.28,2.54 -17.78,1.833 -17.28,2.54 ; -19.05,-2.54 19.05,-2.54 19.05,2.54 -19.05,2.54 -19.05,-2.54
  text "'.Designator'" at -4.047,-2.68 h1
Top Courtyard:
  lines w0.254: -19.55,-4.07 19.55,-4.07 19.55,4.07 -19.55,4.07 -19.55,-4.07
Top Designator:
  text ".Designator" at -7.618,-0.508 h1.52

## Samtec_HLE-115-02-xxx-DV-BE_2x15_P2.54mm_Horizontal [mm]
pads (60):
  rect 1.27x1.68 smd: 1(-17.78,2.72) 2(-17.78,-2.72) 3(-15.24,2.72) 4(-15.24,-2.72) 5(-12.7,2.72) 6(-12.7,-2.72) 7(-10.16,2.72) 8(-10.16,-2.72) 9(-7.62,2.72) 10(-7.62,-2.72) 11(-5.08,2.72) 12(-5.08,-2.72) 13(-2.54,2.72) 14(-2.54,-2.72) 15(0,2.72) 16(0,-2.72) 17(2.54,2.72) 18(2.54,-2.72) 19(5.08,2.72) 20(5.08,-2.72) 21(7.62,2.72) 22(7.62,-2.72) 23(10.16,2.72) 24(10.16,-2.72) 25(12.7,2.72) 26(12.7,-2.72) 27(15.24,2.72) 28(15.24,-2.72) 29(17.78,2.72) 30(17.78,-2.72)
  round 0.97 hole 0.97: Un1(-17.78,1.27) Un2(-17.78,-1.27) Un3(-15.24,1.27) Un4(-15.24,-1.27) Un5(-12.7,1.27) Un6(-12.7,-1.27) Un7(-10.16,1.27) Un8(-10.16,-1.27) Un9(-7.62,1.27) Un10(-7.62,-1.27) Un11(-5.08,1.27) Un12(-5.08,-1.27) Un13(-2.54,1.27) Un14(-2.54,-1.27) Un15(0,1.27) Un16(0,-1.27) Un17(2.54,1.27) Un18(2.54,-1.27) Un19(5.08,1.27) Un20(5.08,-1.27) Un21(7.62,1.27) Un22(7.62,-1.27) Un23(10.16,1.27) Un24(10.16,-1.27) Un25(12.7,1.27) Un26(12.7,-1.27) Un27(15.24,1.27) Un28(15.24,-1.27) Un29(17.78,1.27) Un30(17.78,-1.27)
F.SilkS:
  lines w0.254: -18.675,-2.65 -19.16,-2.65 -19.16,2.65 -18.675,2.65 -18.675,3.56 ; -16.885,-2.65 -16.135,-2.65 ; -16.885,2.65 -16.135,2.65 ; -14.345,-2.65 -13.595,-2.65 ; -14.345,2.65 -13.595,2.65 ; -11.805,-2.65 -11.055,-2.65 ; -11.805,2.65 -11.055,2.65 ; -9.265,-2.65 -8.515,-2.65 ; -9.265,2.65 -8.515,2.65 ; -6.725,-2.65 -5.975,-2.65 ; -6.725,2.65 -5.975,2.65 ; -4.185,-2.65 -3.435,-2.65 ; -4.185,2.65 -3.435,2.65 ; -1.645,-2.65 -0.895,-2.65 ; -1.645,2.65 -0.895,2.65 ; 0.895,-2.65 1.645,-2.65 ; 0.895,2.65 1.645,2.65 ; 3.435,-2.65 4.185,-2.65 ; 3.435,2.65 4.185,2.65 ; 5.975,-2.65 6.725,-2.65 ; 5.975,2.65 6.725,2.65 ; 8.515,-2.65 9.265,-2.65 ; 8.515,2.65 9.265,2.65 ; 11.055,-2.65 11.805,-2.65 ; 11.055,2.65 11.805,2.65 ; 13.595,-2.65 14.345,-2.65 ; 13.595,2.65 14.345,2.65 ; 16.135,-2.65 16.885,-2.65 ; 16.135,2.65 16.885,2.65 ; 18.675,-2.65 19.16,-2.65 19.16,2.65 18.675,2.65
Top Assembly:
  lines w0.254: -18.28,2.54 -17.78,1.833 -17.28,2.54 ; -19.05,-2.54 19.05,-2.54 19.05,2.54 -19.05,2.54 -19.05,-2.54
  text "'.Designator'" at -4.047,-2.68 h1
Top Courtyard:
  lines w0.254: -19.55,-4.07 19.55,-4.07 19.55,4.07 -19.55,4.07 -19.55,-4.07
Top Designator:
  text ".Designator" at -7.618,-0.508 h1.52

## Samtec_HLE-115-02-xxx-DV-LC_2x15_P2.54mm_Horizontal [mm]
pads (32):
  rect 1.27x2.29 smd: 1(-17.78,2.525) 2(-17.78,-2.525) 3(-15.24,2.525) 4(-15.24,-2.525) 5(-12.7,2.525) 6(-12.7,-2.525) 7(-10.16,2.525) 8(-10.16,-2.525) 9(-7.62,2.525) 10(-7.62,-2.525) 11(-5.08,2.525) 12(-5.08,-2.525) 13(-2.54,2.525) 14(-2.54,-2.525) 15(0,2.525) 16(0,-2.525) 17(2.54,2.525) 18(2.54,-2.525) 19(5.08,2.525) 20(5.08,-2.525) 21(7.62,2.525) 22(7.62,-2.525) 23(10.16,2.525) 24(10.16,-2.525) 25(12.7,2.525) 26(12.7,-2.525) 27(15.24,2.525) 28(15.24,-2.525) 29(17.78,2.525) 30(17.78,-2.525)
  round 1.19 hole 1.19: Un1(-16.51,0) Un2(16.51,0)
F.SilkS:
  lines w0.254: -18.675,-2.65 -19.16,-2.65 -19.16,2.65 -18.675,2.65 -18.675,3.67 ; -16.885,-2.65 -16.135,-2.65 ; -16.885,2.65 -16.135,2.65 ; -14.345,-2.65 -13.595,-2.65 ; -14.345,2.65 -13.595,2.65 ; -11.805,-2.65 -11.055,-2.65 ; -11.805,2.65 -11.055,2.65 ; -9.265,-2.65 -8.515,-2.65 ; -9.265,2.65 -8.515,2.65 ; -6.725,-2.65 -5.975,-2.65 ; -6.725,2.65 -5.975,2.65 ; -4.185,-2.65 -3.435,-2.65 ; -4.185,2.65 -3.435,2.65 ; -1.645,-2.65 -0.895,-2.65 ; -1.645,2.65 -0.895,2.65 ; 0.895,-2.65 1.645,-2.65 ; 0.895,2.65 1.645,2.65 ; 3.435,-2.65 4.185,-2.65 ; 3.435,2.65 4.185,2.65 ; 5.975,-2.65 6.725,-2.65 ; 5.975,2.65 6.725,2.65 ; 8.515,-2.65 9.265,-2.65 ; 8.515,2.65 9.265,2.65 ; 11.055,-2.65 11.805,-2.65 ; 11.055,2.65 11.805,2.65 ; 13.595,-2.65 14.345,-2.65 ; 13.595,2.65 14.345,2.65 ; 16.135,-2.65 16.885,-2.65 ; 16.135,2.65 16.885,2.65 ; 18.675,-2.65 19.16,-2.65 19.16,2.65 18.675,2.65
Top Assembly:
  lines w0.254: -18.28,2.54 -17.78,1.833 -17.28,2.54 ; -19.05,-2.54 19.05,-2.54 19.05,2.54 -19.05,2.54 -19.05,-2.54
  text "'.Designator'" at -4.047,-2.68 h1
Top Courtyard:
  lines w0.254: -19.55,-4.17 19.55,-4.17 19.55,4.17 -19.55,4.17 -19.55,-4.17
Top Designator:
  text ".Designator" at -7.618,-0.508 h1.52

## Samtec_HLE-115-02-xxx-DV_2x15_P2.54mm_Horizontal [mm]
pads (30):
  rect 1.27x2.29 smd: 1(-17.78,2.525) 2(-17.78,-2.525) 3(-15.24,2.525) 4(-15.24,-2.525) 5(-12.7,2.525) 6(-12.7,-2.525) 7(-10.16,2.525) 8(-10.16,-2.525) 9(-7.62,2.525) 10(-7.62,-2.525) 11(-5.08,2.525) 12(-5.08,-2.525) 13(-2.54,2.525) 14(-2.54,-2.525) 15(0,2.525) 16(0,-2.525) 17(2.54,2.525) 18(2.54,-2.525) 19(5.08,2.525) 20(5.08,-2.525) 21(7.62,2.525) 22(7.62,-2.525) 23(10.16,2.525) 24(10.16,-2.525) 25(12.7,2.525) 26(12.7,-2.525) 27(15.24,2.525) 28(15.24,-2.525) 29(17.78,2.525) 30(17.78,-2.525)
F.SilkS:
  lines w0.254: -18.675,-2.65 -19.16,-2.65 -19.16,2.65 -18.675,2.65 -18.675,3.67 ; -16.885,-2.65 -16.135,-2.65 ; -16.885,2.65 -16.135,2.65 ; -14.345,-2.65 -13.595,-2.65 ; -14.345,2.65 -13.595,2.65 ; -11.805,-2.65 -11.055,-2.65 ; -11.805,2.65 -11.055,2.65 ; -9.265,-2.65 -8.515,-2.65 ; -9.265,2.65 -8.515,2.65 ; -6.725,-2.65 -5.975,-2.65 ; -6.725,2.65 -5.975,2.65 ; -4.185,-2.65 -3.435,-2.65 ; -4.185,2.65 -3.435,2.65 ; -1.645,-2.65 -0.895,-2.65 ; -1.645,2.65 -0.895,2.65 ; 0.895,-2.65 1.645,-2.65 ; 0.895,2.65 1.645,2.65 ; 3.435,-2.65 4.185,-2.65 ; 3.435,2.65 4.185,2.65 ; 5.975,-2.65 6.725,-2.65 ; 5.975,2.65 6.725,2.65 ; 8.515,-2.65 9.265,-2.65 ; 8.515,2.65 9.265,2.65 ; 11.055,-2.65 11.805,-2.65 ; 11.055,2.65 11.805,2.65 ; 13.595,-2.65 14.345,-2.65 ; 13.595,2.65 14.345,2.65 ; 16.135,-2.65 16.885,-2.65 ; 16.135,2.65 16.885,2.65 ; 18.675,-2.65 19.16,-2.65 19.16,2.65 18.675,2.65
Top Assembly:
  lines w0.254: -18.28,2.54 -17.78,1.833 -17.28,2.54 ; -19.05,-2.54 19.05,-2.54 19.05,2.54 -19.05,2.54 -19.05,-2.54
  text "'.Designator'" at -4.047,-2.68 h1
Top Courtyard:
  lines w0.254: -19.55,-4.17 19.55,-4.17 19.55,4.17 -19.55,4.17 -19.55,-4.17
Top Designator:
  text ".Designator" at -7.618,-0.508 h1.52